# Altium footprint library 2010_C.PcbLib: 1 footprints
Each footprint in its own frame and in the unit in brackets; x right, y up, seen from the top. Pads: shape width x height; smd on the part's side, far side on the other; paste and mask are expansions set on the pad; w line width, h text height; cw(c..) or ccw(c..) is an arc to the next point about the centre after c.
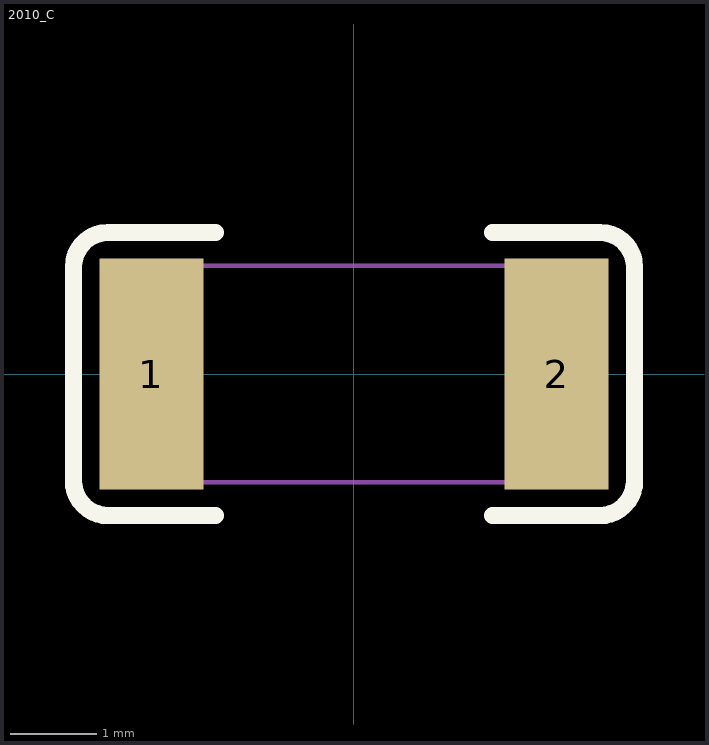
[diagram p0: the footprint, top view; thin cyan lines are the x and y axes]

## 2010_C [mm]
pads (2):
  rect 1.2x2.67 smd: 1(-2.34,0) 2(2.34,0)
Top Overlay:
  lines w0.2: -1.6,-1.635 -2.84,-1.635 cw(c-2.84,-1.235) -3.24,-1.235 -3.24,1.235 cw(c-2.84,1.235) -2.84,1.635 -1.6,1.635 ; 1.6,-1.635 2.84,-1.635 ccw(c2.84,-1.235) 3.24,-1.235 3.24,1.235 ccw(c2.84,1.235) 2.84,1.635 1.6,1.635
Mechanical 13:
  lines w0.05: -2.5,-1.25 -2.5,1.25 2.5,1.25 2.5,-1.25 -2.5,-1.25